# Altium footprint library DFN650P300X300X90-8L.PcbLib: 1 footprints
Each footprint in its own frame and in the unit in brackets; x right, y up, seen from the top. Pads: shape width x height; smd on the part's side, far side on the other; paste and mask are expansions set on the pad; w line width, h text height; cw(c..) or ccw(c..) is an arc to the next point about the centre after c.
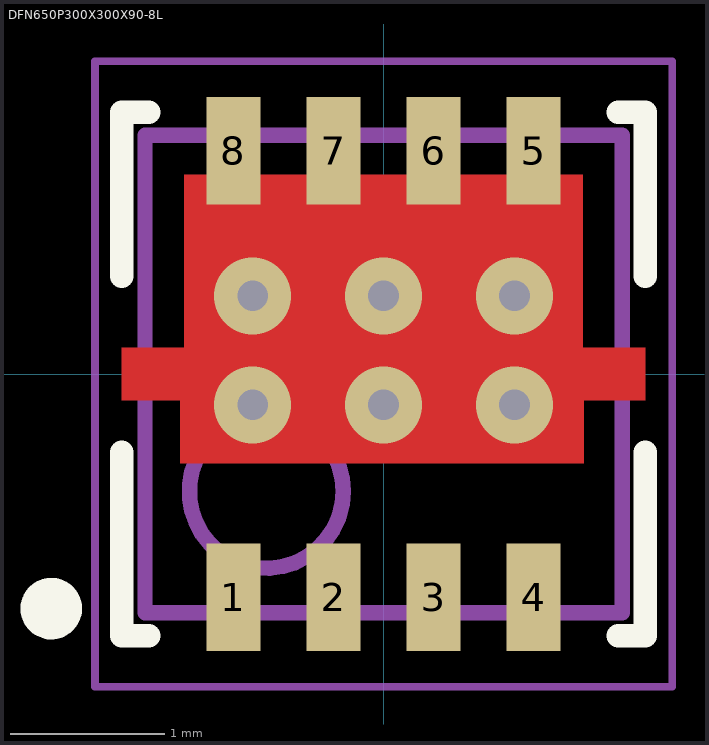
[diagram p0: the footprint, top view; thin cyan lines are the x and y axes]

## DFN650P300X300X90-8L [mm]
height 0.9
pads (16):
  rect 0.35x0.7 smd: 1(-0.975,-1.45) 2(-0.325,-1.45) 3(0.325,-1.45) 4(0.975,-1.45) 5(0.975,1.45) 6(0.325,1.45) 7(-0.325,1.45) 8(-0.975,1.45)
  rect 0x0 smd: 9(-0.85,0) 10(-0.35,0) 11(0,0.85) 12(0,0.35) 13(0.85,0) 14(0.35,0) 15(0,-0.85) 16(0,-0.35)
via -0.85,-0.2 diameter 0.5 hole 0.2
via 0,-0.2 diameter 0.5 hole 0.2
via 0.85,-0.2 diameter 0.5 hole 0.2
via 0.85,0.508 diameter 0.5 hole 0.2
via 0,0.508 diameter 0.5 hole 0.2
via -0.85,0.508 diameter 0.5 hole 0.2
Top Layer:
  region: -1.295,0.17 -1.7,0.17 -1.7,-0.17 -1.321,-0.17 -1.321,-0.58 1.3,-0.58 1.3,-0.17 1.7,-0.17 1.7,0.17 1.295,0.17 1.295,1.295 -1.295,1.295
  lines w0.1: -0.012,-0.003 -0.009,0
Top Overlay:
  circle w0.2: c-2.159,-1.524 r0.1
  lines w0.152: -1.7,-0.508 -1.7,-1.7 -1.525,-1.7 ; -1.7,0.635 -1.7,1.7 -1.525,1.7 ; 1.525,-1.7 1.7,-1.7 1.7,-0.508 ; 1.525,1.7 1.7,1.7 1.7,0.635
Mechanical 13:
  circle w0.1: c-0.762,-0.762 r0.5
  lines w0.1: -1.55,-1.55 -1.55,1.55 1.55,1.55 1.55,-1.55 -1.55,-1.55
Mechanical 15:
  lines w0.05: -0.5,0 0.5,0 ; 0,-0.5 0,0.5 ; -1.875,-2.032 -1.875,2.032 1.875,2.032 1.875,-2.032 -1.875,-2.032
3D body: height 0.8, standoff -0.05, extent -1.55,-1.6 1.55,1.6